# EAGLE library part ATMEGA168 (library mylib)
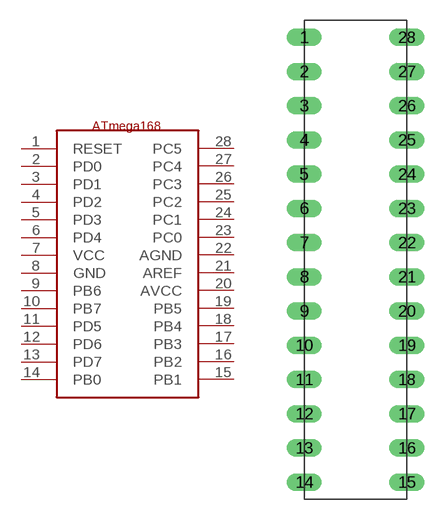
[diagram p0: symbol with the pads of ATMEGA168; footprint ATMEGA168]

Designator prefix -

## ATMEGA168  [ATMEGA168]
1  RESET
2  PD0
3  PD1
4  PD2
5  PD3
6  PD4
7  VCC
8  GND
9  PB6
10  PB7
11  PD5
12  PD6
13  PD7
14  PB0
15  PB1
16  PB2
17  PB3
18  PB4
19  PB5
20  AVCC
21  AREF
22  AGND
23  PC0
24  PC1
25  PC2
26  PC3
27  PC4
28  PC5

## Footprint ATMEGA168 (pad centres in mm)
drill 0.8 long: 1 -6.35,15.24; 2 -6.35,12.7; 3 -6.35,10.16; 4 -6.35,7.62; 5 -6.35,5.08; 6 -6.35,2.54; 7 -6.35,0; 8 -6.35,-2.54; 9 -6.35,-5.08; 10 -6.35,-7.62; 11 -6.35,-10.16; 12 -6.35,-12.7; 13 -6.35,-15.24; 14 -6.35,-17.78; 15 1.27,-17.78; 16 1.27,-15.24; 17 1.27,-12.7; 18 1.27,-10.16; 19 1.27,-7.62; 20 1.27,-5.08; 21 1.27,-2.54; 22 1.27,0; 23 1.27,2.54; 24 1.27,5.08; 25 1.27,7.62; 26 1.27,10.16; 27 1.27,12.7; 28 1.27,15.24